# Altium footprint library MarioLib.PcbLib: 20 footprints (part 1 of 2)
Each footprint in its own frame and in the unit in brackets; x right, y up, seen from the top. Pads: shape width x height; smd on the part's side, far side on the other; paste and mask are expansions set on the pad; w line width, h text height; cw(c..) or ccw(c..) is an arc to the next point about the centre after c.
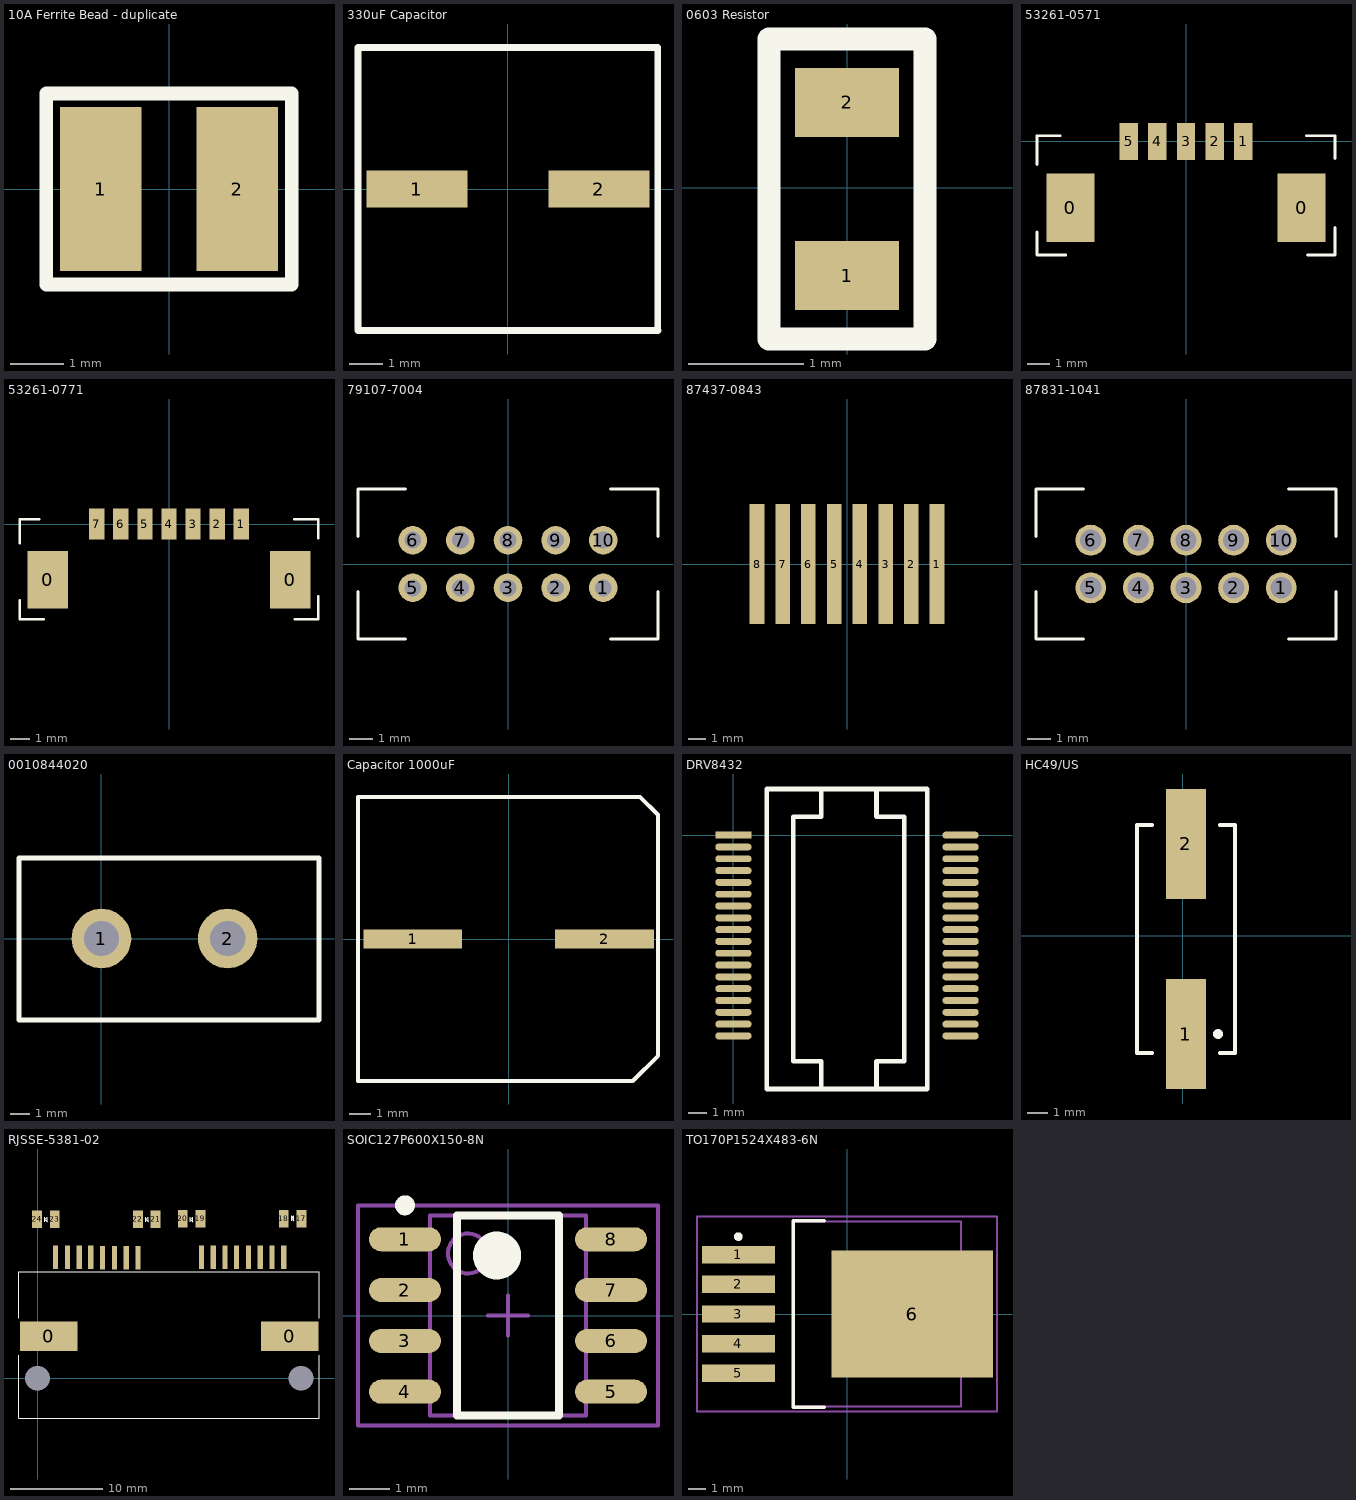
[diagram p0: the footprints below, top view; thin cyan lines are the x and y axes]

## 10A Ferrite Bead - duplicate [mil]
pads (2):
  rect 60x120 smd: 1(-50,0) 2(50,0)
Top Overlay:
  lines w10: -90,-70 90,-70 90,70 -90,70 -90,30 -90,-70

## 330uF Capacitor [mm]
pads (2):
  rect 3x1.1 smd: 1(-2.7,0) 2(2.7,0)
Top Overlay:
  lines w0.2: -4.445,-4.2 4.454,-4.2 4.445,-4.191 4.445,2.195 4.445,4.2 -4.445,4.2 -4.445,3.405 -4.445,-4.2

## 0603 Resistor [mm]
height 0.5
pads (2):
  rect 0.9x0.6 smd: 1(0,-0.762) 2(0,0.738)
Top Overlay:
  lines w0.2: -0.675,-1.312 0.675,-1.312 0.675,1.288 -0.675,1.288 -0.675,-1.312

## 53261-0571 [mm] "5-pin PicoBlade Right-angle header"
height 3.4
pads (7):
  rect 2.1x3 smd: 0(-5.05,-2.9) 0(5.05,-2.9)
  rect 0.8x1.6 smd: 1(2.5,0) 2(1.25,0) 3(0,0) 4(-1.25,0) 5(-2.5,0)
Top Overlay:
  lines w0.127: -6.5,-3.95 -6.5,-4.95 -5.25,-4.95 ; -6.5,-1 -6.5,0.25 -5.5,0.25 ; 5.25,0.25 6.5,0.25 6.5,-0.75 ; 5.3,-4.95 6.5,-4.95 6.5,-3.75
3D body: height 3.4, standoff 0, extent -6.5,-4.95 6.5,0.25

## 53261-0771 [mm] "7 pin PicoBlade right-angle header"
height 3.4
pads (9):
  rect 2.1x3 smd: 0(-6.3,-2.9) 0(6.3,-2.9)
  rect 0.8x1.6 smd: 1(3.75,0) 2(2.5,0) 3(1.25,0) 4(0,0) 5(-1.25,0) 6(-2.5,0) 7(-3.75,0)
Top Overlay:
  lines w0.127: -7.75,-3.95 -7.75,-4.95 -6.5,-4.95 ; -7.75,-1 -7.75,0.25 -6.75,0.25 ; 6.5,0.25 7.75,0.25 7.75,-0.75 ; 6.55,-4.95 7.75,-4.95 7.75,-3.75
3D body: height 3.4, standoff 0, extent -7.75,-4.95 7.75,0.25

## 79107-7004 [mm]
height 6.4
pads (10):
  round 1.2 hole 0.71: 1(4,-1) 2(2,-1) 3(0,-1) 4(-2,-1) 5(-4,-1) 6(-4,1) 7(-2,1) 8(0,1) 9(2,1) 10(4,1)
Top Overlay:
  lines w0.127: -6.3,-1.15 -6.3,-3.15 -4.3,-3.15 ; -6.3,1.15 -6.3,3.15 -4.3,3.15 ; 4.3,-3.15 6.3,-3.15 6.3,-1.15 ; 4.3,3.15 6.3,3.15 6.3,1.15
3D body: height 6.4, standoff 0, extent -6.25,-3.1 6.2,3.1

## 87437-0843 [mm]
height 5.75
pads (8):
  rect 0.85x7 smd: 1(5.25,0) 2(3.75,0) 3(2.25,0) 4(0.75,0) 5(-0.75,0) 6(-2.25,0) 7(-3.75,0) 8(-5.25,0)

## 87831-1041 [mm]
height 6.4
pads (10):
  round 1.3 hole 0.9: 1(4,-1) 2(2,-1) 3(0,-1) 4(-2,-1) 5(-4,-1) 6(-4,1) 7(-2,1) 8(0,1) 9(2,1) 10(4,1)
Top Overlay:
  lines w0.127: -6.3,-1.15 -6.3,-3.15 -4.3,-3.15 ; -6.3,1.15 -6.3,3.15 -4.3,3.15 ; 4.3,-3.15 6.3,-3.15 6.3,-1.15 ; 4.3,3.15 6.3,3.15 6.3,1.15
3D body: height 6.4, standoff 0, extent -6.25,-3.1 6.2,3.1

## 0010844020 [mm]
pads (2):
  round 3 hole 1.778: 1(0,0) 2(6.35,0)
Top Overlay:
  lines w0.254: -4.15,-4.1 10.95,-4.1 10.95,4.05 -4.15,4.05 -4.15,-4.1

## Capacitor 1000uF [mm]
pads (2):
  rect 4.7x0.9 smd: 1(-4.55,0) 2(4.55,0)
Top Overlay:
  lines w0.2: -7.15,6.7 -7.15,-6.75 5.9,-6.75 7.1,-5.55 7.1,5.9 6.25,6.75 -7.15,6.75

## DRV8432 [mm]
pads (36):
  rect 2x0.38 smd: 1(0,0)
  oval 2x0.38 smd: 2(0,-0.65) 3(0,-1.3) 4(0,-1.95) 5(0,-2.6) 6(0,-3.25) 7(0,-3.9) 8(0,-4.55) 9(0,-5.2) 10(0,-5.85) 11(0,-6.5) 12(0,-7.15) 13(0,-7.8) 14(0,-8.45) 15(0,-9.1) 16(0,-9.75) 17(0,-10.4) 18(0,-11.05) 19(12.5,-11.05) 20(12.5,-10.4) 21(12.5,-9.75) 22(12.5,-9.1) 23(12.5,-8.45) 24(12.5,-7.8) 25(12.5,-7.15) 26(12.5,-6.5) 27(12.5,-5.85) 28(12.5,-5.2) 29(12.5,-4.55) 30(12.5,-3.9) 31(12.5,-3.25) 32(12.5,-2.6) 33(12.5,-1.95) 34(12.5,-1.3) 35(12.5,-0.65) 36(12.5,0)
Top Overlay:
  lines w0.254: 4.826,-13.97 4.826,-13.335 4.826,-12.446 3.302,-12.446 3.302,1.016 4.826,1.016 4.826,1.778 4.826,2.54 ; 7.874,-13.97 7.874,-13.335 7.874,-12.446 9.398,-12.446 9.398,1.016 7.874,1.016 7.874,1.778 7.874,2.54 ; 4.826,2.54 1.835,2.54 1.835,-13.97 10.665,-13.97 10.665,2.54 7.874,2.54 ; 4.826,2.54 7.874,2.54

## HC49/US [mm]
height 4.3
pads (2):
  rect 2x5.5 smd: 1(0.158,-4.91) 2(0.158,4.59)
Top Overlay:
  circle w0.25: c1.758,-4.91 r0.125
  lines w0.2: -1.542,-5.86 -2.292,-5.86 -2.292,5.54 -1.542,5.54 ; 1.858,-5.86 2.608,-5.86 2.608,5.54 1.858,5.54

## PCBComponent_1 [mm]

## RJSSE-5381-02 [mm]
height 14.85
pads (28):
  rect 6.223x3.175 smd: 0(1.2,4.55) 0(27.25,4.55)
  rect 0.559x2.54 smd: 1(26.6,13.05) 2(25.325,13.05) 3(24.05,13.05) 4(22.775,13.05) 5(21.5,13.05) 6(20.25,13.05) 7(18.975,13.05) 8(17.7,13.05) 9(10.85,13.025) 10(9.575,13.025) 11(8.3,13.025) 12(7.025,13.025) 13(5.75,13.05) 14(4.5,13.05) 15(3.225,13.05) 16(1.95,13.05)
  rect 1.05x1.9 smd: 17(28.5,17.225) 18(26.6,17.225) 19(17.6,17.225) 20(15.7,17.225) 21(12.75,17.175) 22(10.85,17.175) 23(1.85,17.175) 24(-0.05,17.175)
  round 0 hole 2.69 unplated: ""(0,0)
  round 0 hole 2.69: ""(28.45,0)
Top Overlay:
  lines w0.127: -2,2.5 -2,-4.3 30.4,-4.3 30.4,2.5 ; -2,6.5 -2,11.5 30.4,11.5 30.4,6.5 ; 0.787,16.891 0.787,17.145 ; 0.787,17.399 0.787,17.145 ; 11.684,16.891 11.684,17.145 ; 11.684,17.399 11.684,17.145 ; 16.51,16.891 16.51,17.145 ; 16.51,17.399 16.51,17.145 ; 27.432,17.018 27.432,17.272 ; 27.432,17.526 27.432,17.272 ; 0.787,17.145 1.041,16.891 1.041,17.399 0.787,17.145 ; 11.684,17.145 11.938,17.399 11.938,16.891 11.684,17.145 ; 16.51,17.145 16.764,17.399 16.764,16.891 16.51,17.145 ; 27.432,17.272 27.686,17.018 27.686,17.526 27.432,17.272
3D body: height 14.85, standoff 0, extent -2,-4.3 30.4,11.5

## SOIC127P600X150-8N [mm] "SOIC, 8-Leads, Body 5.0x3.9mm (max), Pitch 1.27mm, IPC Medium Density"
height 1.5
pads (8):
  oval 1.8x0.6 smd: 1(-2.575,1.905) 2(-2.575,0.635) 3(-2.575,-0.635) 4(-2.575,-1.905) 5(2.575,-1.905) 6(2.575,-0.635) 7(2.575,0.635) 8(2.575,1.905)
Top Overlay:
  circle w0.25: c-2.575,2.755 r0.125
  circle w0.6: c-0.275,1.5 r0.3
  lines w0.2: -1.275,-2.5 -1.275,2.5 1.275,2.5 1.275,-2.5 -1.275,-2.5
Mechanical 13:
  circle w0.1: c-1,1.55 r0.5
  lines w0.1: -1.95,-2.5 -1.95,2.5 1.95,2.5 1.95,-2.5 -1.95,-2.5
Mechanical 15:
  lines w0.1: -0.5,0 0.5,0 ; 0,-0.5 0,0.5 ; -3.75,-2.75 -3.75,2.75 3.75,2.75 3.75,-2.75 -3.75,-2.75
3D body: height 1.5, standoff 0.09, extent -1.95,-2.5 1.95,2.5

## TO170P1524X483-6N [mm] "D2-PAK, 6-Pads, Body 9.6x10.7mm (max), IPC Medium Density"
height 4.83
pads (6):
  rect 4.2x1 smd: 1(-6.25,3.4) 2(-6.25,1.7) 3(-6.25,0) 4(-6.25,-1.7) 5(-6.25,-3.4)
  rect 9.3x7.3 smd: 6(3.75,0)
Top Overlay:
  circle w0.25: c-6.25,4.45 r0.125
  lines w0.2: -1.3,-5.35 -3.1,-5.35 -3.1,5.35 -1.3,5.35
Mechanical 13:
  lines w0.1: -3.1,-5.325 6.55,-5.325 6.55,5.325 -3.1,5.325 -3.1,-5.325
Mechanical 15:
  lines w0.1: -0.5,0 0.5,0 ; 0,-0.5 0,0.5 ; -8.625,-5.6 8.625,-5.6 8.625,5.6 -8.625,5.6 -8.625,-5.6
3D body: height 4.83, standoff 0.25, extent -3.1,-5.325 6.55,5.325